# EAGLE library part LTC3630 (library linear-technology)
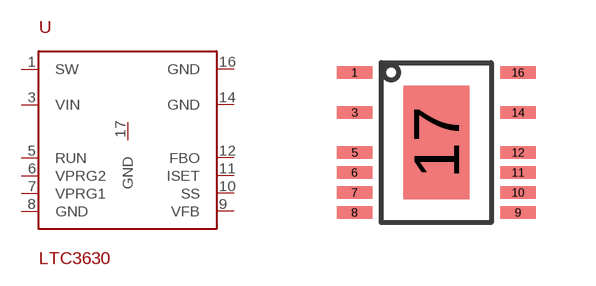
[diagram p30: symbol with the pads of MSE16; footprint MSE16]

Designator prefix -

## LTC3630  [MSE16]
1  SW
3  VIN
5  RUN
6  VPRG2
7  VPRG1
8  GND
9  VFB
10  SS
11  ISET
12  FBO
14  GND
16  GND
17  GND

## Footprint MSE16 (pad centres in mm)
smd 0.89 x 0.305: 1 -2.045,1.75; 3 -2.045,0.75; 5 -2.045,-0.25; 6 -2.045,-0.75; 7 -2.045,-1.25; 8 -2.045,-1.75; 9 2.045,-1.75; 10 2.045,-1.25; 11 2.045,-0.75; 12 2.045,-0.25; 14 2.045,0.75; 16 2.045,1.75
smd 1.65 x 2.84: 17 0,0